# EAGLE library part KLAMENS6 (library klamens6x)
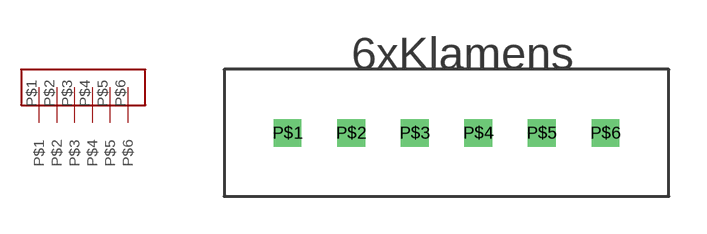
[diagram p0: symbol with the pads of KLAMENS6; footprint KLAMENS6]

Designator prefix -

## KLAMENS6  [KLAMENS6]
P$1  P$1
P$2  P$2
P$3  P$3
P$4  P$4
P$5  P$5
P$6  P$6

## Footprint KLAMENS6 (pad centres in mm)
drill 0.6 square: P$1 -10.16,2.54; P$2 -7.62,2.54; P$3 -5.08,2.54; P$4 -2.54,2.54; P$5 0,2.54; P$6 2.54,2.54